# EAGLE library part TLW-127-05-G-S (library SAMTEC-Txx_By_element14_Batch_1)
LOW PROFILE HEADER
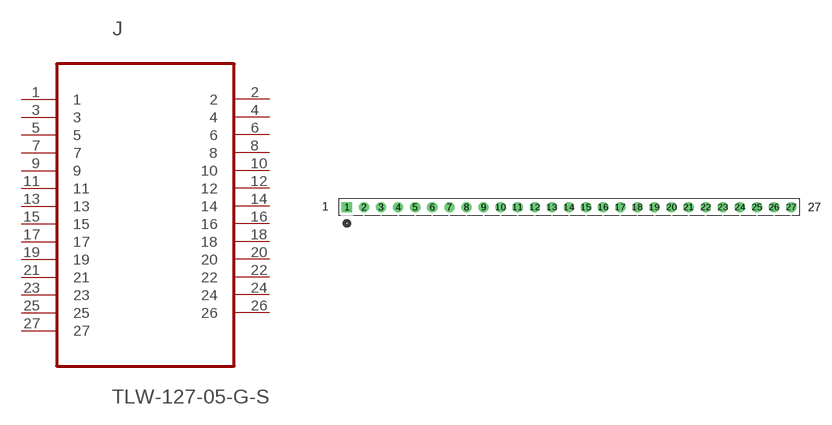
[diagram p317: symbol with the pads of SAMTEC_TLW-127-05-G-S; footprint SAMTEC_TLW-127-05-G-S]

Designator prefix J

## TLW-127-05-G-S (MPN: TLW-127-05-G-S; OC_FARNELL: -; OC_NEWARK: 12P0563; PACKAGE: LOW PROFILE HEADER, SINGLE ROW, 27 way; SUPPLIER: SAMTEC)  [SAMTEC_TLW-127-05-G-S]
1  1  pas
2  2  pas
3  3  pas
4  4  pas
5  5  pas
6  6  pas
7  7  pas
8  8  pas
9  9  pas
10  10  pas
11  11  pas
12  12  pas
13  13  pas
14  14  pas
15  15  pas
16  16  pas
17  17  pas
18  18  pas
19  19  pas
20  20  pas
21  21  pas
22  22  pas
23  23  pas
24  24  pas
25  25  pas
26  26  pas
27  27  pas

## Footprint SAMTEC_TLW-127-05-G-S (pad centres in mm)
drill 1.016 square: 1 -66.04,0
drill 1.016: 2 -63.5,0; 3 -60.96,0; 4 -58.42,0; 5 -55.88,0; 6 -53.34,0; 7 -50.8,0; 8 -48.26,0; 9 -45.72,0; 10 -43.18,0; 11 -40.64,0; 12 -38.1,0; 13 -35.56,0; 14 -33.02,0; 15 -30.48,0; 16 -27.94,0; 17 -25.4,0; 18 -22.86,0; 19 -20.32,0; 20 -17.78,0; 21 -15.24,0; 22 -12.7,0; 23 -10.16,0; 24 -7.62,0; 25 -5.08,0; 26 -2.54,0; 27 0,0